# Altium footprint library CUFabricV2.PcbLib: 21 footprints (part 2 of 2)
Each footprint in its own frame and in the unit in brackets; x right, y up, seen from the top. Pads: shape width x height; smd on the part's side, far side on the other; paste and mask are expansions set on the pad; w line width, h text height; cw(c..) or ccw(c..) is an arc to the next point about the centre after c.
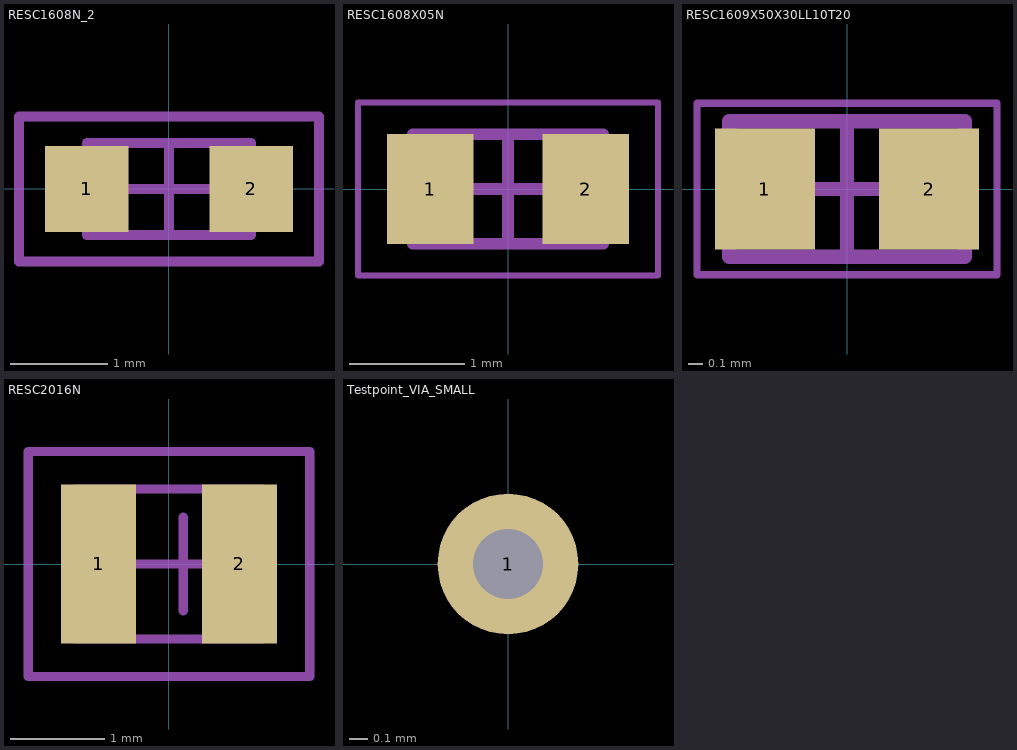
[diagram p1: the footprints below, top view; thin cyan lines are the x and y axes]

## RESC1608N_2 [mil]
pads (2):
  rect 34x35 smd: 1(-33.46,0) 2(33.46,0)
Mechanical 13:
  lines w3.94: -33.46,-18.7 -33.46,18.7 33.46,18.7 33.46,-18.7 -33.46,-18.7
Mechanical 15:
  lines w3.94: -18.7,0 18.7,0 ; 0,-18.7 0,18.7 ; -61.02,-29.53 -61.02,29.53 61.02,29.53 61.02,-29.53 -61.02,-29.53
3D body: height 23.62, standoff 0, extent -33.46,-18.7 33.46,18.7

## RESC1608X05N [mm] "Chip Resistor, 2-Leads, Body 1.58x0.85mm, IPC Medium Density"
height 0.5
pads (2):
  rect 0.75x0.95 smd: 1(-0.675,0) 2(0.675,0)
Mechanical 13:
  lines w0.1: -0.825,-0.475 0.825,-0.475 0.825,0.475 -0.825,0.475 -0.825,-0.475
Mechanical 15:
  lines w0.05: -1.3,-0.75 1.3,-0.75 1.3,0.75 -1.3,0.75 -1.3,-0.75
  lines w0.1: -0.475,0 0.475,0 ; 0,-0.475 0,0.475
3D body: height 0.5, standoff 0, extent 0.075,-0.475 0.825,0.475
3D body: height 0.5, standoff 0, extent -0.825,-0.475 -0.075,0.475
3D body: height 0.5, standoff 0, extent -0.075,-0.475 0.075,0.475

## RESC1609X50X30LL10T20 [mm] "Chip Resistor, 2-Leads, Body 1.55x0.85mm, IPC High Density"
height 0.5
pads (2):
  rect 0.7x0.85 smd: 1(-0.575,0) 2(0.575,0)
Mechanical 13:
  lines w0.1: -0.825,-0.475 0.825,-0.475 0.825,0.475 -0.825,0.475 -0.825,-0.475
Mechanical 15:
  lines w0.05: -1.05,-0.6 1.05,-0.6 1.05,0.6 -1.05,0.6 -1.05,-0.6
  lines w0.1: -0.475,0 0.475,0 ; 0,-0.475 0,0.475
3D body: height 0.5, standoff 0, extent 0.525,-0.475 0.825,0.475
3D body: height 0.5, standoff 0, extent -0.825,-0.475 -0.525,0.475
3D body: height 0.5, standoff 0, extent -0.525,-0.475 0.525,0.475

## RESC2016N [mm] "Chip Resistor, Body 2.0x1.6mm, IPC Medium Density"
height 1
pads (2):
  rect 0.8x1.7 smd: 1(-0.75,0) 2(0.75,0)
Mechanical 1:
  lines w0.1: -1,-0.8 1,-0.8 1,0.8 -1,0.8 -1,-0.8
Mechanical 15:
  lines w0.1: -0.35,0 0.65,0 ; 0.15,-0.5 0.15,0.5 ; -1.5,-1.2 -1.5,1.2 1.5,1.2 1.5,-1.2 -1.5,-1.2
3D body: height 1, standoff 0, extent -1.05,-0.85 1.05,0.85

## Testpoint_VIA_SMALL [mil] "15 mil test point via with probing pad on the back"
pads (1):
  round 30 / inner round 30 / far side round 50 hole 15: 1(0,0)
Bottom Overlay:
  circle w2.5: c0,0 r32